# Altium schematic symbol library NCP43080.Schlib: 1 symbol
Pins are listed as number, name and electrical type; pins without a type are passive.

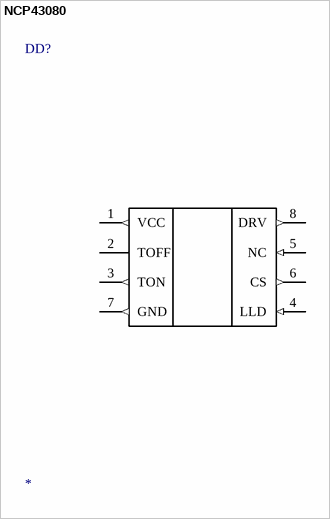
[diagram p0: symbol NCP43080]

## NCP43080
designator DD?
High-frequency multi-mode synchronous rectifier controller
pins: 1 VCC (out), 2 TOFF (power), 3 TON (out), 4 LLD (in), 5 NC (in), 6 CS (out), 7 GND (out), 8 DRV (out)